# Altium footprint library CONN_TBLOCK_3P81.PcbLib: 55 footprints (part 2 of 4)
Each footprint in its own frame and in the unit in brackets; x right, y up, seen from the top. Pads: shape width x height; smd on the part's side, far side on the other; paste and mask are expansions set on the pad; w line width, h text height; cw(c..) or ccw(c..) is an arc to the next point about the centre after c.
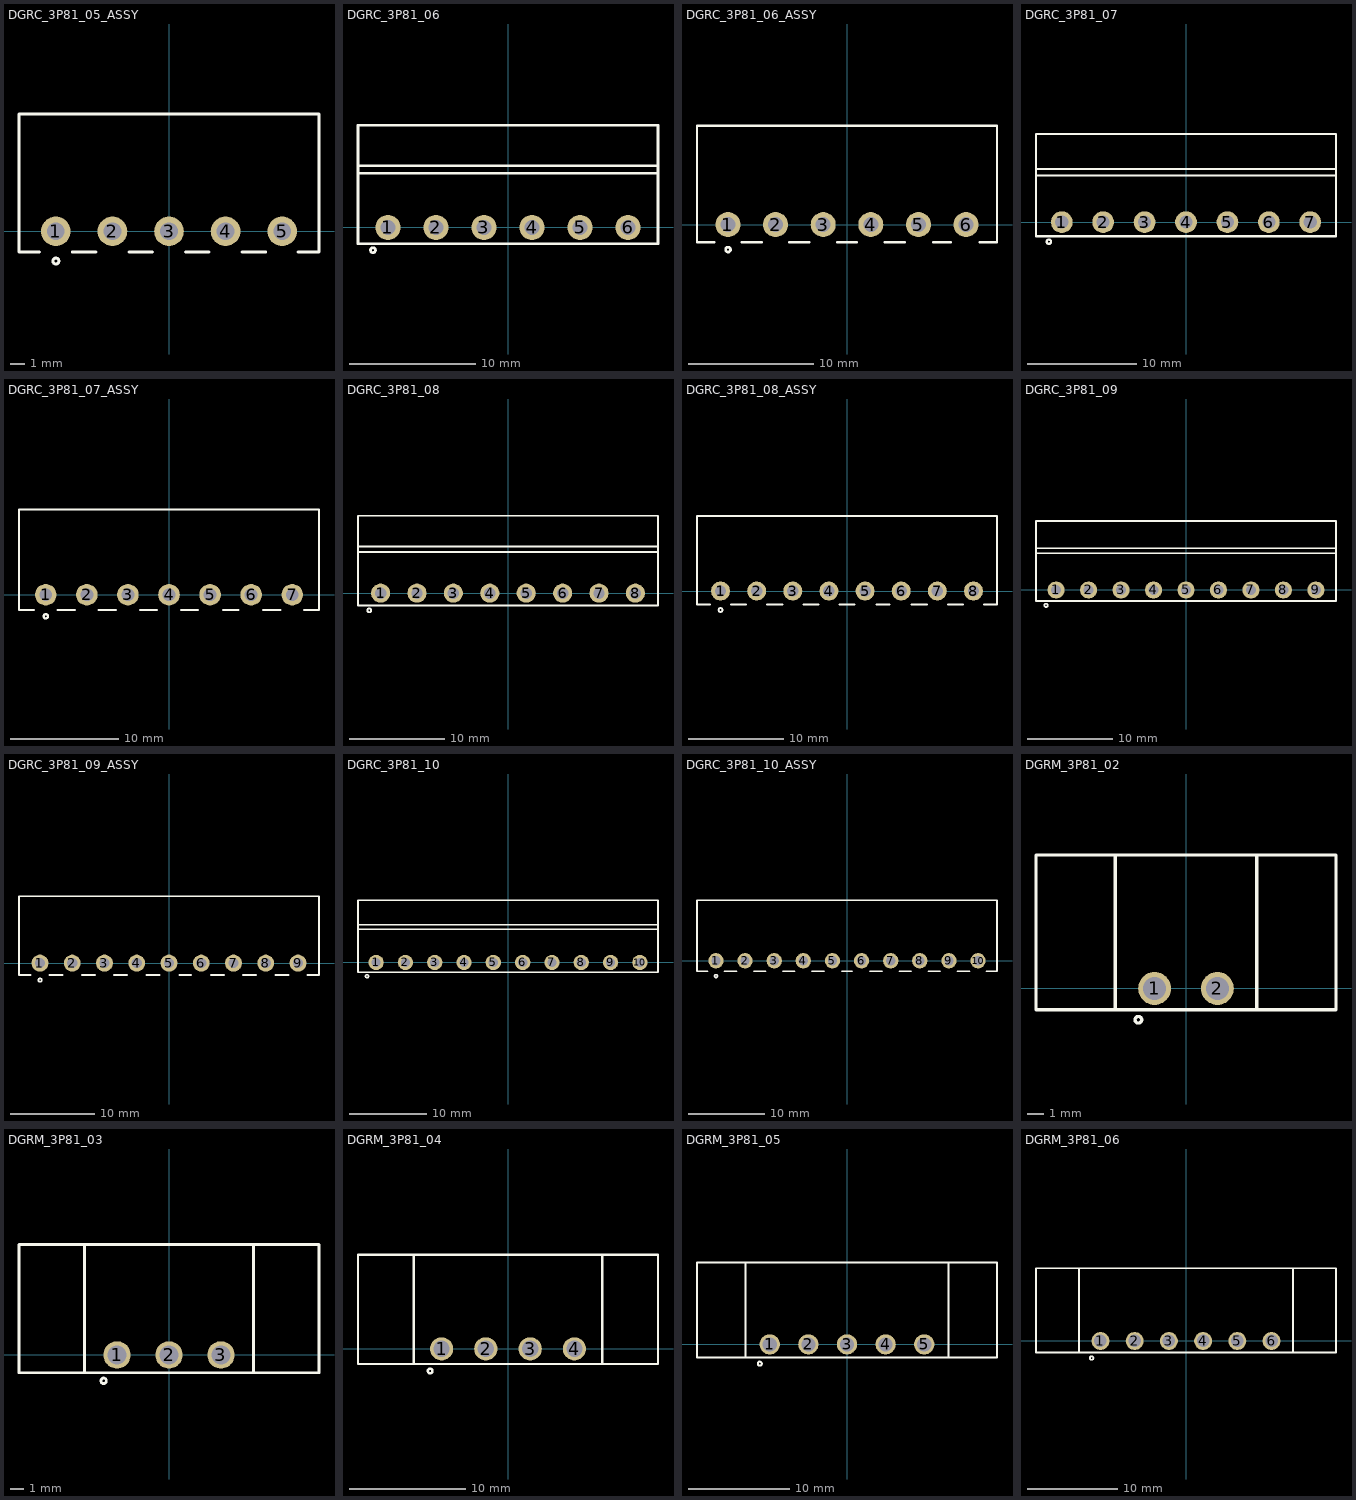
[diagram p1: the footprints below, top view; thin cyan lines are the x and y axes]

## DGRC_3P81_05_ASSY [mm] "PHOENIX MC 1.5, EDGK-3.81, 3.81mm pitch, 5pin"
height 6.5
pads (5):
  round 2 / inner round 2 / far side oval 2.4x3 hole 1.2: 1(-7.62,0) 2(-3.81,0) 3(0,0) 4(3.81,0) 5(7.62,0)
Top Overlay:
  circle w0.2: c-7.615,-2 r0.2
  lines w0.2: -8.715,-1.4 -10.1,-1.4 -10.1,7.9 10.1,7.9 10.1,-1.4 8.7,-1.4 ; -6.515,-1.4 -4.915,-1.4 ; -2.705,-1.4 -1.105,-1.4 ; 1.105,-1.4 2.705,-1.4 ; 4.915,-1.4 6.515,-1.4
3D body "User Library-KEFA 3_81mm_5pin_RA.STEP": height 7.98, standoff -3.3, extent -10.22,-1.3 10.22,17.1

## DGRC_3P81_06 [mm] "Terminal Block, 3.81mm pitch, Right Angle"
pads (6):
  round 2 / inner round 2 / far side oval 2.4x3 hole 1.2: 1(-9.525,0) 2(-5.715,0) 3(-1.905,0) 4(1.905,0) 5(5.715,0) 6(9.525,0)
Top Overlay:
  circle w0.2: c-10.71,-1.8 r0.2
  lines w0.2: -11.9,4.3 11.9,4.3 ; -11.9,4.9 11.9,4.9 ; -11.9,-1.3 11.9,-1.3 11.9,8.1 -11.9,8.1 -11.9,-1.3
3D body "TBP02R1-381-06GR.step": height 7.3, standoff -3.4, extent -11.825,-1.2 11.825,8

## DGRC_3P81_06_ASSY [mm] "PHOENIX MC 1.5, EDGK-3.81, 3.81mm pitch, 6pin"
height 6.5
pads (6):
  round 2 / inner round 2 / far side oval 2.4x3 hole 1.2: 1(-9.525,0) 2(-5.715,0) 3(-1.905,0) 4(1.905,0) 5(5.715,0) 6(9.525,0)
Top Overlay:
  circle w0.2: c-9.52,-2 r0.2
  lines w0.2: -10.62,-1.4 -12.005,-1.4 -12.005,7.9 12.005,7.9 12.005,-1.4 10.62,-1.4 ; -8.42,-1.4 -6.82,-1.4 ; -4.61,-1.4 -3.01,-1.4 ; -0.8,-1.4 0.8,-1.4 ; 3.01,-1.4 4.61,-1.4 ; 6.92,-1.4 8.32,-1.4
3D body "User Library-KEFA 3_81mm_6pin_RA.STEP": height 7.98, standoff -3.3, extent -12.125,-1.3 12.125,17.1

## DGRC_3P81_07 [mm] "Terminal Block, 3.81mm pitch, Right Angle"
pads (7):
  round 2 / inner round 2 / far side oval 2.4x3 hole 1.2: 1(-11.43,0) 2(-7.62,0) 3(-3.81,0) 4(0,0) 5(3.81,0) 6(7.62,0) 7(11.43,0)
Top Overlay:
  circle w0.2: c-12.615,-1.8 r0.2
  lines w0.2: -13.8,4.3 13.8,4.3 ; -13.8,4.9 13.8,4.9 ; -13.8,-1.3 13.8,-1.3 13.8,8.1 -13.8,8.1 -13.8,-1.3
3D body "TBP02R1-381-07GR.step": height 7.3, standoff -3.4, extent -13.73,-1.2 13.73,8

## DGRC_3P81_07_ASSY [mm] "PHOENIX MC 1.5, EDGK-3.81, 3.81mm pitch, 7pin"
height 6.5
pads (7):
  round 2 / inner round 2 / far side oval 2.4x3 hole 1.2: 1(-11.43,0) 2(-7.62,0) 3(-3.81,0) 4(0,0) 5(3.81,0) 6(7.62,0) 7(11.43,0)
Top Overlay:
  circle w0.2: c-11.425,-2 r0.2
  lines w0.2: -12.525,-1.4 -13.91,-1.4 -13.91,7.9 13.91,7.9 13.91,-1.4 12.525,-1.4 ; -10.325,-1.4 -8.725,-1.4 ; -6.515,-1.4 -4.915,-1.4 ; -2.705,-1.4 -1.105,-1.4 ; 1.105,-1.4 2.705,-1.4 ; 5.015,-1.4 6.415,-1.4 ; 8.725,-1.4 10.325,-1.4
3D body "User Library-KEFA 3_81mm_7pin_RA.STEP": height 7.98, standoff -3.3, extent -14.03,-1.3 14.03,17.1

## DGRC_3P81_08 [mm] "Terminal Block, 3.81mm pitch, Right Angle"
pads (8):
  round 2 / inner round 2 / far side oval 2.4x3 hole 1.2: 1(-13.335,0) 2(-9.525,0) 3(-5.715,0) 4(-1.905,0) 5(1.905,0) 6(5.715,0) 7(9.525,0) 8(13.335,0)
Top Overlay:
  circle w0.2: c-14.52,-1.8 r0.2
  lines w0.2: -15.7,4.3 15.7,4.3 ; -15.7,4.9 15.7,4.9 ; -15.7,-1.3 -15.7,8.1 15.7,8.1 15.7,-1.3 -15.7,-1.3
3D body "TBP02R1-381-08GR.step": height 7.3, standoff -3.4, extent -15.635,-1.2 15.635,8

## DGRC_3P81_08_ASSY [mm] "PHOENIX MC 1.5, EDGK-3.81, 3.81mm pitch, 8pin"
height 6.5
pads (8):
  round 2 / inner round 2 / far side oval 2.4x3 hole 1.2: 1(-13.335,0) 2(-9.525,0) 3(-5.715,0) 4(-1.905,0) 5(1.905,0) 6(5.715,0) 7(9.525,0) 8(13.335,0)
Top Overlay:
  circle w0.2: c-13.33,-2 r0.2
  lines w0.2: -14.43,-1.4 -15.815,-1.4 -15.815,7.9 15.815,7.9 15.815,-1.4 14.43,-1.4 ; -12.23,-1.4 -10.63,-1.4 ; -8.42,-1.4 -6.82,-1.4 ; -4.61,-1.4 -3.01,-1.4 ; -0.8,-1.4 0.8,-1.4 ; 3.11,-1.4 4.51,-1.4 ; 6.82,-1.4 8.42,-1.4 ; 10.63,-1.4 12.23,-1.4
3D body "User Library-KEFA 3_81mm_8pin_RA.STEP": height 7.98, standoff -3.3, extent -15.935,-1.3 15.935,17.1

## DGRC_3P81_09 [mm] "Terminal Block, 3.81mm pitch, Right Angle"
pads (9):
  round 2 / inner round 2 / far side oval 2.4x3 hole 1.2: 1(-15.24,0) 2(-11.43,0) 3(-7.62,0) 4(-3.81,0) 5(0,0) 6(3.81,0) 7(7.62,0) 8(11.43,0) 9(15.24,0)
Top Overlay:
  circle w0.2: c-16.425,-1.8 r0.2
  lines w0.2: -17.6,4.3 17.6,4.3 ; -17.6,4.9 17.6,4.9 ; -17.6,-1.3 17.6,-1.3 17.6,8.1 -17.6,8.1 -17.6,-1.3
3D body "TBP02R1-381-09GR.step": height 7.3, standoff -3.4, extent -17.54,-1.2 17.54,8

## DGRC_3P81_09_ASSY [mm] "PHOENIX MC 1.5, EDGK-3.81, 3.81mm pitch, 9pin"
height 6.5
pads (9):
  round 2 / inner round 2 / far side oval 2.4x3 hole 1.2: 1(-15.24,0) 2(-11.43,0) 3(-7.62,0) 4(-3.81,0) 5(0,0) 6(3.81,0) 7(7.62,0) 8(11.43,0) 9(15.24,0)
Top Overlay:
  circle w0.2: c-15.235,-2 r0.2
  lines w0.2: -16.335,-1.4 -17.72,-1.4 -17.72,7.9 17.72,7.9 17.72,-1.4 16.335,-1.4 ; -14.135,-1.4 -12.535,-1.4 ; -10.325,-1.4 -8.725,-1.4 ; -6.515,-1.4 -4.915,-1.4 ; -2.705,-1.4 -1.105,-1.4 ; 1.205,-1.4 2.605,-1.4 ; 4.915,-1.4 6.515,-1.4 ; 8.725,-1.4 10.325,-1.4 ; 12.535,-1.4 14.135,-1.4
3D body "User Library-KEFA 3_81mm_9pin_RA.STEP": height 7.98, standoff -3.3, extent -17.84,-1.3 17.84,17.1

## DGRC_3P81_10 [mm] "Terminal Block, 3.81mm pitch, Right Angle"
pads (10):
  round 2 / inner round 2 / far side oval 2.4x3 hole 1.2: 1(-17.145,0) 2(-13.335,0) 3(-9.525,0) 4(-5.715,0) 5(-1.905,0) 6(1.905,0) 7(5.715,0) 8(9.525,0) 9(13.335,0) 10(17.145,0)
Top Overlay:
  circle w0.2: c-18.33,-1.8 r0.2
  lines w0.2: -19.5,4.3 19.5,4.3 ; -19.5,4.9 19.5,4.9 ; -19.5,-1.3 19.5,-1.3 19.5,8.1 -19.5,8.1 -19.5,-1.3
3D body "TBP02R1-381-10GR.step": height 7.3, standoff -3.4, extent -19.445,-1.2 19.445,8

## DGRC_3P81_10_ASSY [mm] "PHOENIX MC 1.5, EDGK-3.81, 3.81mm pitch, 10pin"
height 6.5
pads (10):
  round 2 / inner round 2 / far side oval 2.4x3 hole 1.2: 1(-17.145,0) 2(-13.335,0) 3(-9.525,0) 4(-5.715,0) 5(-1.905,0) 6(1.905,0) 7(5.715,0) 8(9.525,0) 9(13.335,0) 10(17.145,0)
Top Overlay:
  circle w0.2: c-17.14,-2 r0.2
  lines w0.2: -18.24,-1.4 -19.625,-1.4 -19.625,7.9 19.625,7.9 19.625,-1.4 18.24,-1.4 ; -16.04,-1.4 -14.44,-1.4 ; -12.23,-1.4 -10.63,-1.4 ; -8.42,-1.4 -6.82,-1.4 ; -4.61,-1.4 -3.01,-1.4 ; -0.7,-1.4 0.7,-1.4 ; 3.01,-1.4 4.61,-1.4 ; 10.63,-1.4 12.23,-1.4 ; 14.44,-1.4 16.04,-1.4 ; 6.82,-1.4 8.42,-1.4 6.82,-1.4
3D body "User Library-KEFA 3_81mm_10pin_RA.STEP": height 7.98, standoff -3.3, extent -19.745,-1.3 19.745,17.1

## DGRM_3P81_02 [mm] "Terminal Block, 3.81mm pitch, Right Angle, Screw fixed"
pads (2):
  round 2 / inner round 2 / far side oval 2.4x3 hole 1.4: 1(-1.905,0) 2(1.905,0)
Top Overlay:
  circle w0.2: c-2.89,-1.9 r0.2
  lines w0.2: -4.3,-1.3 -4.3,8.1 ; 4.3,-1.3 4.3,8.1 ; -9.1,-1.3 9.1,-1.3 9.1,8.1 -9.1,8.1 -9.1,-1.3
3D body "TBP02R1W-381-02GR.step": height 7.7, standoff -3, extent -9.005,-1.2 9.005,8

## DGRM_3P81_03 [mm] "Terminal Block, 3.81mm pitch, Right Angle, Screw fixed"
pads (3):
  round 2 / inner round 2 / far side oval 2.4x3 hole 1.4: 1(-3.81,0) 2(0,0) 3(3.81,0)
Top Overlay:
  circle w0.2: c-4.795,-1.9 r0.2
  lines w0.2: -6.2,-1.3 -6.2,8.1 ; 6.2,-1.3 6.2,8.1 ; -11,-1.3 11,-1.3 11,8.1 -11,8.1 -11,-1.3
3D body "TBP02R1W-381-03GR.step": height 7.7, standoff -3, extent -10.91,-1.2 10.91,8

## DGRM_3P81_04 [mm] "Terminal Block, 3.81mm pitch, Right Angle, Screw fixed"
pads (4):
  round 2 / inner round 2 / far side oval 2.4x3 hole 1.4: 1(-5.715,0) 2(-1.905,0) 3(1.905,0) 4(5.715,0)
Top Overlay:
  circle w0.2: c-6.7,-1.9 r0.2
  lines w0.2: -8.1,-1.3 -8.1,8.1 ; 8.1,-1.3 8.1,8.1 ; -12.9,-1.3 12.9,-1.3 12.9,8.1 -12.9,8.1 -12.9,-1.3
3D body "TBP02R1W-381-04GR.step": height 7.7, standoff -3, extent -12.815,-1.2 12.815,8

## DGRM_3P81_05 [mm] "Terminal Block, 3.81mm pitch, Right Angle, Screw fixed"
pads (5):
  round 2 / inner round 2 / far side oval 2.4x3 hole 1.4: 1(-7.62,0) 2(-3.81,0) 3(0,0) 4(3.81,0) 5(7.62,0)
Top Overlay:
  circle w0.2: c-8.605,-1.9 r0.2
  lines w0.2: -10,-1.3 -10,8.1 ; 10,-1.3 10,8.1 ; -14.8,-1.3 14.8,-1.3 14.8,8.1 -14.8,8.1 -14.8,-1.3
3D body "TBP02R1W-381-05GR.step": height 7.7, standoff -3, extent -14.72,-1.2 14.72,8

## DGRM_3P81_06 [mm] "Terminal Block, 3.81mm pitch, Right Angle, Screw fixed"
pads (6):
  round 2 / inner round 2 / far side oval 2.4x3 hole 1.4: 1(-9.525,0) 2(-5.715,0) 3(-1.905,0) 4(1.905,0) 5(5.715,0) 6(9.525,0)
Top Overlay:
  circle w0.2: c-10.51,-1.9 r0.2
  lines w0.2: -11.9,-1.3 -11.9,8.1 ; 11.9,-1.3 11.9,8.1 ; -16.7,-1.3 -16.7,8.1 16.7,8.1 16.7,-1.3 -16.7,-1.3
3D body "TBP02R1W-381-06GR.step": height 7.7, standoff -3, extent -16.625,-1.2 16.625,8